# EAGLE library part ANALOG_DEVICES_ADUM3070ARQZ-RL7 (library Upverter Library)
ADI-ADUM3070-RQ-16
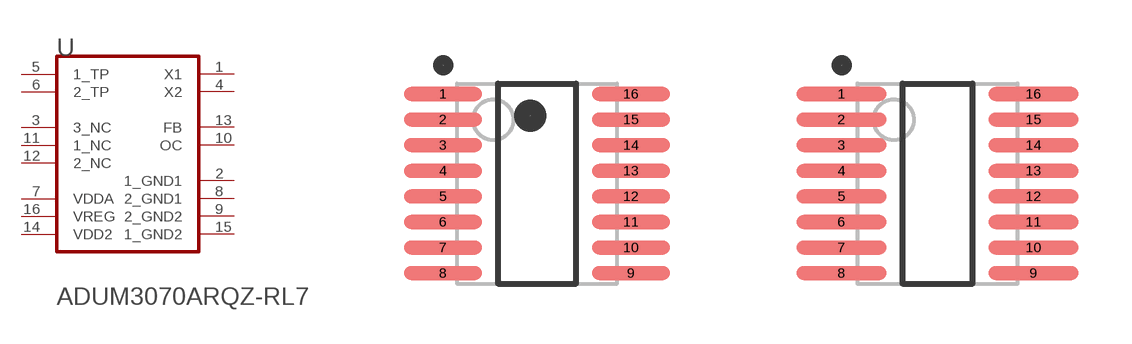
[diagram p0: symbol with the pads of ANALOG_DEVICES_ADUM3070ARQZ-RL7_0; footprints ANALOG_DEVICES_ADUM3070ARQZ-RL7_0, ANALOG_DEVICES_ADUM3070ARQZ-RL7_1]

Designator prefix U

## ANALOG_DEVICES_ADUM3070ARQZ-RL7ANALOG_DEVICES_ADUM3070ARQZ-RL7_0_0 (Code__JEDEC: MO-137-AB; Component_Link_1_Description: Manufacturer URL; Component_Link_1_URL: http://www.analog.com/en/index.html; Component_Link_3_Description: Package Specification; Component_Link_3_URL: http://www.analog.com/static/imported-files/packages/5595549651201762937RQ_16.pdf; Datasheet_Version: Rev. 0; Insulation_Rating_kVrms: 2.5; MF: Analog Devices; MPN: ADUM3070ARQZ-RL7; Max_Operating_Temp_degreesC: 105; Mounting_Technology: Surface Mount; Package_Description: 16-Pin Shrink Small Outline Package, Body 4.9 x 3.9 mm, Pitch 0.64 mm; Package_Version: Aug-05; ciiva_ids: 4365264; datasheet: http://www.analog.com/static/imported-files/data_sheets/ADuM3070.pdf; footprint_variant_name_0: Level C; footprint_variant_name_1: Level B; footprint_variant_name_2: Level A; import_ts: 1521863241; imported: yes; imported_from: vault; package: RQ-16; prefix: U; release_date: 1391072320; vault_guid: 44B25833-4918-419B-AF85-812FCD11F17C; vault_revision: B5314BC4-B1C1-4837-9551-9F616A2F35EB)  [ANALOG_DEVICES_ADUM3070ARQZ-RL7_0]
1  X1  pwr
2  1_GND1  pwr
3  3_NC  pas
4  X2  pwr
5  1_TP  pas
6  2_TP  pas
7  VDDA  pwr
8  2_GND1  pwr
9  2_GND2  pwr
10  OC  in
11  1_NC  pas
12  2_NC  pas
13  FB  in
14  VDD2  pwr
15  1_GND2  pwr
16  VREG  pwr

## ANALOG_DEVICES_ADUM3070ARQZ-RL7ANALOG_DEVICES_ADUM3070ARQZ-RL7_0_1 (Code__JEDEC: MO-137-AB; Component_Link_1_Description: Manufacturer URL; Component_Link_1_URL: http://www.analog.com/en/index.html; Component_Link_3_Description: Package Specification; Component_Link_3_URL: http://www.analog.com/static/imported-files/packages/5595549651201762937RQ_16.pdf; Datasheet_Version: Rev. 0; Insulation_Rating_kVrms: 2.5; MF: Analog Devices; MPN: ADUM3070ARQZ-RL7; Max_Operating_Temp_degreesC: 105; Mounting_Technology: Surface Mount; Package_Description: 16-Pin Shrink Small Outline Package, Body 4.9 x 3.9 mm, Pitch 0.64 mm; Package_Version: Aug-05; ciiva_ids: 4365264; datasheet: http://www.analog.com/static/imported-files/data_sheets/ADuM3070.pdf; footprint_variant_name_0: Level C; footprint_variant_name_1: Level B; footprint_variant_name_2: Level A; import_ts: 1521863241; imported: yes; imported_from: vault; package: RQ-16; prefix: U; release_date: 1391072320; vault_guid: 44B25833-4918-419B-AF85-812FCD11F17C; vault_revision: B5314BC4-B1C1-4837-9551-9F616A2F35EB)  [ANALOG_DEVICES_ADUM3070ARQZ-RL7_1]
Pads as for ANALOG_DEVICES_ADUM3070ARQZ-RL7_0

## ANALOG_DEVICES_ADUM3070ARQZ-RL7ANALOG_DEVICES_ADUM3070ARQZ-RL7_0_2 (Code__JEDEC: MO-137-AB; Component_Link_1_Description: Manufacturer URL; Component_Link_1_URL: http://www.analog.com/en/index.html; Component_Link_3_Description: Package Specification; Component_Link_3_URL: http://www.analog.com/static/imported-files/packages/5595549651201762937RQ_16.pdf; Datasheet_Version: Rev. 0; Insulation_Rating_kVrms: 2.5; MF: Analog Devices; MPN: ADUM3070ARQZ-RL7; Max_Operating_Temp_degreesC: 105; Mounting_Technology: Surface Mount; Package_Description: 16-Pin Shrink Small Outline Package, Body 4.9 x 3.9 mm, Pitch 0.64 mm; Package_Version: Aug-05; ciiva_ids: 4365264; datasheet: http://www.analog.com/static/imported-files/data_sheets/ADuM3070.pdf; footprint_variant_name_0: Level C; footprint_variant_name_1: Level B; footprint_variant_name_2: Level A; import_ts: 1521863241; imported: yes; imported_from: vault; package: RQ-16; prefix: U; release_date: 1391072320; vault_guid: 44B25833-4918-419B-AF85-812FCD11F17C; vault_revision: B5314BC4-B1C1-4837-9551-9F616A2F35EB)  [ANALOG_DEVICES_ADUM3070ARQZ-RL7_2]
Pads as for ANALOG_DEVICES_ADUM3070ARQZ-RL7_0

## Footprint ANALOG_DEVICES_ADUM3070ARQZ-RL7_0 (pad centres in mm)
ADI-ADUM3070-RQ-16
smd 1.95 x 0.35: 1 -2.35,2.24; 2 -2.35,1.6; 3 -2.35,0.96; 4 -2.35,0.32; 5 -2.35,-0.32; 6 -2.35,-0.96; 7 -2.35,-1.6; 8 -2.35,-2.24; 9 2.35,-2.24; 10 2.35,-1.6; 11 2.35,-0.96; 12 2.35,-0.32; 13 2.35,0.32; 14 2.35,0.96; 15 2.35,1.6; 16 2.35,2.24

## Footprint ANALOG_DEVICES_ADUM3070ARQZ-RL7_1 (pad centres in mm)
ADI-ADUM3070-RQ-16
smd 2.25 x 0.35: 1 -2.4,2.24; 2 -2.4,1.6; 3 -2.4,0.96; 4 -2.4,0.32; 5 -2.4,-0.32; 6 -2.4,-0.96; 7 -2.4,-1.6; 8 -2.4,-2.24; 9 2.4,-2.24; 10 2.4,-1.6; 11 2.4,-0.96; 12 2.4,-0.32; 13 2.4,0.32; 14 2.4,0.96; 15 2.4,1.6; 16 2.4,2.24

## Footprint ANALOG_DEVICES_ADUM3070ARQZ-RL7_2 (pad centres in mm)
ADI-ADUM3070-RQ-16
smd 2.55 x 0.35: 1 -2.45,2.24; 2 -2.45,1.6; 3 -2.45,0.96; 4 -2.45,0.32; 5 -2.45,-0.32; 6 -2.45,-0.96; 7 -2.45,-1.6; 8 -2.45,-2.24; 9 2.45,-2.24; 10 2.45,-1.6; 11 2.45,-0.96; 12 2.45,-0.32; 13 2.45,0.32; 14 2.45,0.96; 15 2.45,1.6; 16 2.45,2.24